# Altium schematic symbol library 2PConnector.SchLib: 1 symbol
Pins are listed as number, name and electrical type; pins without a type are passive.

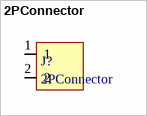
[diagram p0: symbol 2PConnector]

## 2PConnector
designator J?
footprint JST 2pin
pins: 1, 2